# Altium schematic symbol library AMS1117-3.3.Schlib: 1 symbol
Pins are listed as number, name and electrical type; pins without a type are passive.

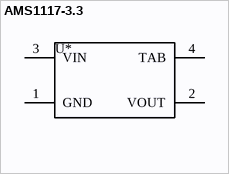
[diagram p0: symbol AMS1117-3.3]

## AMS1117-3.3
designator U*
Fixed 15V 3.3V 1.3V @ 800mA SOT-223 Dropout Regulators(LDO) RoHS; ComponentLink1Description: LCSC - Advanced Monolithic Systems AMS1117-3.3; ComponentLink1URL: https://lcsc.com/product-detail/Dropout-Regulators-LDO_Advanced-Monolithic-Systems-AMS1117-3-3_C6186.html/?href=jlc-SMT; LCSC Part #: C6186
footprint SOT-223 (TO-261)
pins: 1 GND (power) "ground pin", 2 VOUT (power) "Regulated Output Voltage.", 3 VIN (power) "power in", 4 TAB (power) "Regulated Output Voltage."